# EAGLE library part HIROSE_DM3BT-DSF-PEJS (library microSD-socket-HIROSE-DM3BT-DSF-PEJS)
Right Angle Surface Mount Micro SD Card Connector, with Solder Termination
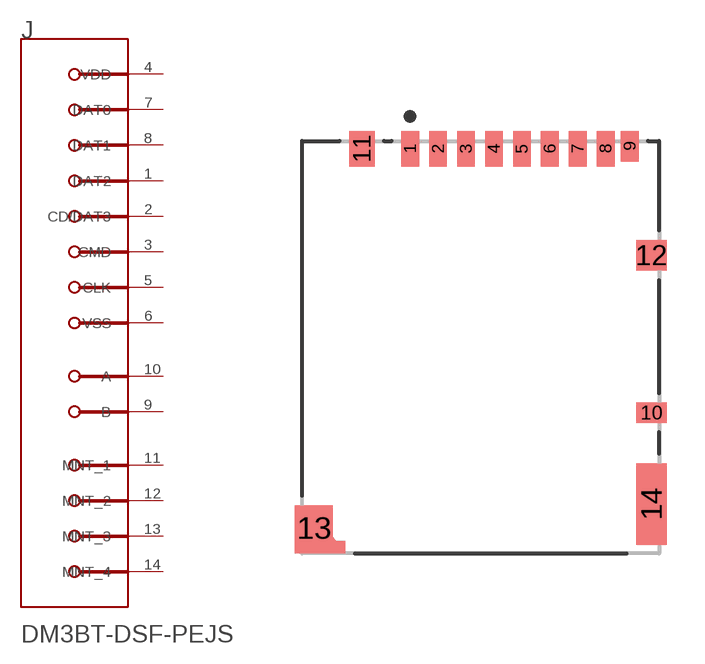
[diagram p0: symbol with the pads of HIROSE_DM3BT-DSF-PEJS_0; footprint HIROSE_DM3BT-DSF-PEJS_0]

Designator prefix J

## HIROSE_DM3BT-DSF-PEJSHIROSE_DM3BT-DSF-PEJS_0_0 (CENTROID_NOT_SPECIFIED: No; CONN_ORIENTATION: Right Angle; CONTACT_MATERIAL: Gold; CURRENT_RATING: 0.5A; DATASHEET: https://www.hirose.com/product/en/download_file/key_name/DM3/category/Catalog/doc_file_id/49662/?file_category_id=4&item_id=195&is_series=1; DEVICE_CLASS_L1: Connectors; DEVICE_CLASS_L2: Memory Connectors; DEVICE_CLASS_L3: unset; DIGIKEY_DESCRIPTION: CONN MICRO SD CARD PUSH-PUSH R/A; DIGIKEY_PART_NUMBER: HR1942CT-ND; FOOTPRINT_URL: https://www.hirose.com/product/en/download_file/key_name/DM3BT-DSF-PEJS/category/Drawing%20(2D)/doc_file_id/44097/?file_category_id=6&item_id=06090029900&is_series=; HEIGHT: 2.38mm; IS_FEMALE: yes; LEAD_FREE: yes; MEMORY_TYPE: FLASH; MF: HIROSE; MFG_PACKAGE_IDENT: DM3BT-DSF-PEJS; MFG_PACKAGE_IDENT_DATE: 0; MFG_PACKAGE_IDENT_REV: 0; MOUSER_DESCRIPTION: Memory Card Connectors MICRO SD CD CONN REV SMT PUSHPUSH; MOUSER_PART_NUMBER: 798-DM3BT-DSF-PEJS; MPN: DM3BT-DSF-PEJS; NUMBER_OF_CONTACTS: 8; PACKAGE: CONN_SMT_MICROSD_13MM85_16MM05; PREFIX: J; ROHS: yes; SHIELDING: true; TEMPERATURE_RANGE_HIGH: +85°C; TEMPERATURE_RANGE_LOW: -25°C; VERIFICATION_VERSION: 0.0.0.1; VOLTAGE_RATING: 125V)  [HIROSE_DM3BT-DSF-PEJS_0]
1  DAT2
2  CD/DAT3
3  CMD  in
4  VDD  pwr
5  CLK  in
6  VSS  pwr
7  DAT0
8  DAT1
9  B  pas
10  A  pas
11  MNT_1  pas
12  MNT_2  pas
13  MNT_3  pas
14  MNT_4  pas

## Footprint HIROSE_DM3BT-DSF-PEJS_0 (pad centres in mm)
Right Angle Surface Mount Micro SD Card Connector, with Solder Termination
smd 0.7 x 1.4: 1 -2.775,7.825; 2 -1.675,7.825; 3 -0.575,7.825; 4 0.525,7.825; 5 1.625,7.825; 6 2.725,7.825; 7 3.825,7.825; 8 4.925,7.825
smd 0.7 x 1.2: 9 5.875,7.925
smd 1.2 x 0.8: 10 6.725,-2.575
smd 1 x 1.4: 11 -4.675,7.825
smd 1.2 x 1.2: 12 6.725,3.625
smd 1.311 x 1.311: 13 -6.553,-7.116
smd 1.2 x 3.2: 14 6.725,-6.175